# EAGLE library part ARDUINO_MEGA_FOOTPRINT (library EW_IC_Processors)
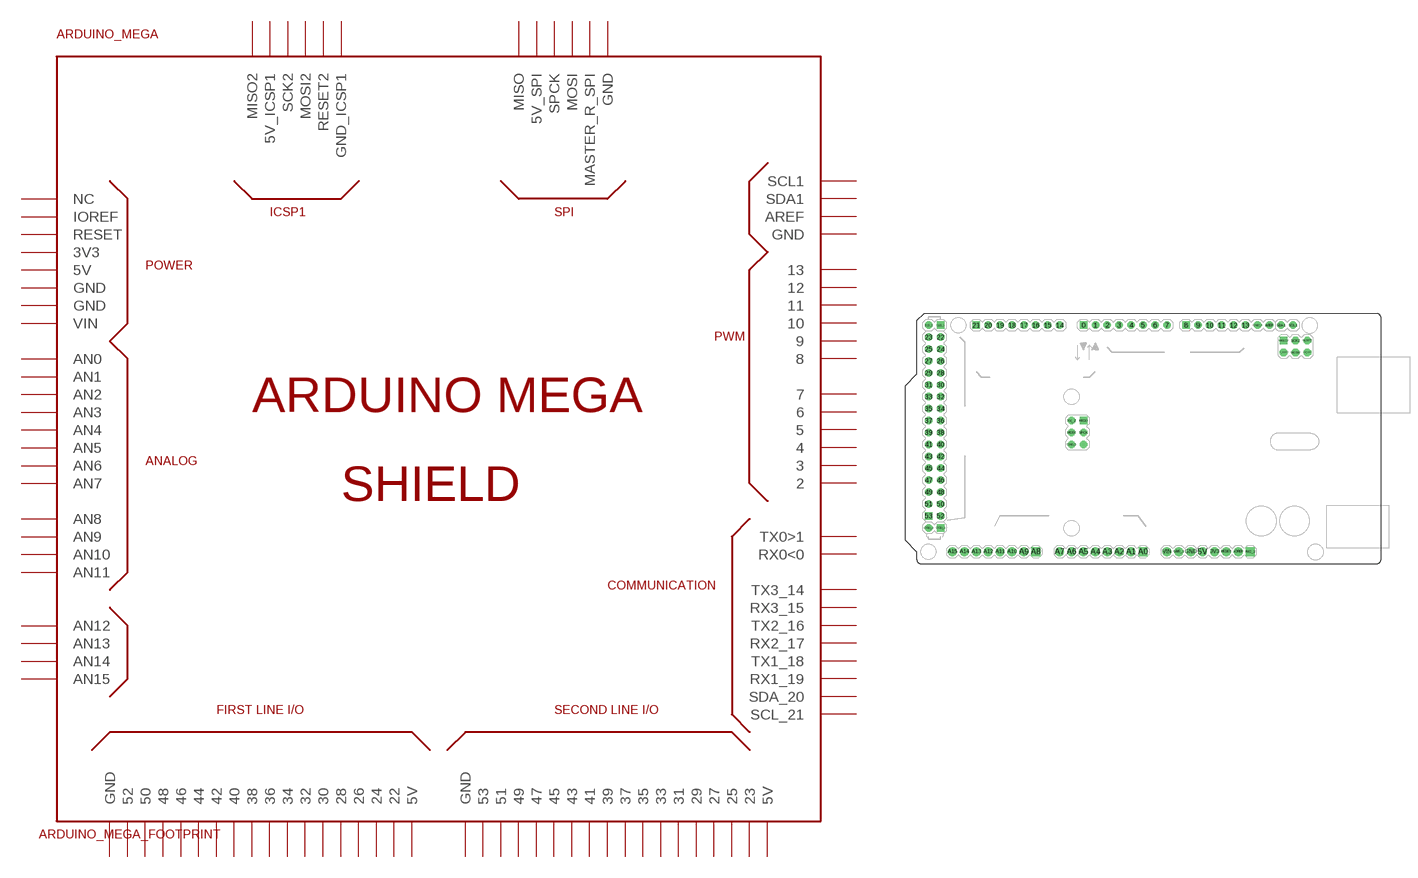
[diagram p2: symbol with the pads of ARDUINO_MEGA_FOOTPRINT; footprint ARDUINO_MEGA_FOOTPRINT]

Designator prefix ARDUINO_MEGA

## ARDUINO_MEGA_FOOTPRINT  [ARDUINO_MEGA_FOOTPRINT]
0  RX0<0
1  TX0>1
2  2
3  3
3V3  3V3
4  4
5  5
5V  5V
5V0_1  5V
5V0_2  5V
5V_2  5V_SPI
5V_ICSP1  5V_ICSP1
6  6
7  7
8  8
9  9
10  10
11  11
12  12
13  13
14  TX3_14
15  RX3_15
16  TX2_16
17  RX2_17
18  TX1_18
19  RX1_19
20  SDA_20
21  SCL_21
22  22
23  23
24  24
25  25
26  26
27  27
28  28
29  29
30  30
31  31
32  32
33  33
34  34
35  35
36  36
37  37
38  38
39  39
40  40
41  41
42  42
43  43
44  44
45  45
46  46
47  47
48  48
49  49
50  50
51  51
52  52
53  53
A0  AN0
A1  AN1
A2  AN2
A3  AN3
A4  AN4
A5  AN5
A6  AN6
A7  AN7
A8  AN8
A9  AN9
A10  AN10
A11  AN11
A12  AN12
A13  AN13
A14  AN14
A15  AN15
AREF  AREF
GND  GND
GND_1  GND
GND_2  GND
GND_3  GND
GND_4  GND
GND_5  GND
GND_ICSP1  GND_ICSP1
IOREF  IOREF
MASTER_RESET_SPI  MASTER_R_SPI
MISO  MISO
MISO2  MISO2
MOSI  MOSI
MOSI2  MOSI2
NC_2  NC  nc
RESET  RESET
RESET2  RESET2
SCK2  SCK2
SCL1  SCL1
SDA1  SDA1
SPCK  SPCK
VIN  VIN

## Footprint ARDUINO_MEGA_FOOTPRINT (pad centres in mm)
drill 1.067 square: 0 -35.56,48.26; 5V0_1 -66.04,48.26; 8 -13.716,48.26; 21 -58.42,48.26; 53 -68.58,7.62; GND_2 -66.04,5.08; MISO -35.56,27.94; MISO2 7.11,44.989
drill 1.067: 1 -33.02,48.26; 2 -30.48,48.26; 3 -27.94,48.26; 4 -25.4,48.26; 5 -22.86,48.26; 5V0_2 -68.58,48.26; 5V_2 -38.1,27.94; 6 -20.32,48.26; 7 -17.78,48.26; 9 -11.176,48.26; 10 -8.636,48.26; 11 -6.096,48.26; 12 -3.556,48.26; 13 -1.016,48.26; 14 -40.64,48.26; 15 -43.18,48.26; 16 -45.72,48.26; 17 -48.26,48.26; 18 -50.8,48.26; 19 -53.34,48.26; 20 -55.88,48.26; 22 -66.04,45.72; 23 -68.58,45.72; 24 -66.04,43.18; 25 -68.58,43.18; 26 -66.04,40.64; 27 -68.58,40.64; 28 -66.04,38.1; 29 -68.58,38.1; 30 -66.04,35.56; 31 -68.58,35.56; 32 -66.04,33.02; 33 -68.58,33.02; 34 -66.04,30.48; 35 -68.58,30.48; 36 -66.04,27.94; 37 -68.58,27.94; 38 -66.04,25.4; 39 -68.58,25.4; 40 -66.04,22.86; 41 -68.58,22.86; 42 -66.04,20.32; 43 -68.58,20.32; 44 -66.04,17.78; 45 -68.58,17.78; 46 -66.04,15.24; 47 -68.58,15.24; 48 -66.04,12.7; 49 -68.58,12.7; 50 -66.04,10.16; 51 -68.58,10.16; 52 -66.04,7.62; AREF 4.064,48.26; GND_3 -68.58,5.08; GND_4 1.524,48.26; GND_5 -38.1,22.86; MASTER_RESET_SPI -35.56,22.86; MOSI -38.1,25.4; SCL1 9.144,48.26; SDA1 6.604,48.26; SPCK -35.56,25.4
drill 1.016 pad 1.88: 3V3 -7.62,0; 5V -10.16,0; A1 -25.4,0; A2 -27.94,0; A3 -30.48,0; A4 -33.02,0; A5 -35.56,0; A6 -38.1,0; A7 -40.64,0; A9 -48.26,0; A10 -50.8,0; A11 -53.34,0; A12 -55.88,0; A13 -58.42,0; A14 -60.96,0; A15 -63.5,0; GND -12.7,0; GND_1 -15.24,0; IOREF -2.533,-0.013; RESET -5.08,-0.001; VIN -17.78,0
drill 1.067 octagon: 5V_ICSP1 7.11,42.449; GND_ICSP1 12.19,42.449; MOSI2 9.65,42.449; RESET2 12.19,44.989; SCK2 9.65,44.989
drill 1.016 pad 1.88 square: A0 -22.86,0; A8 -45.72,0; NC_2 0.007,-0.013